# Altium footprint library PcbLib1.PcbLib: 5 footprints
Each footprint in its own frame and in the unit in brackets; x right, y up, seen from the top. Pads: shape width x height; smd on the part's side, far side on the other; paste and mask are expansions set on the pad; w line width, h text height; cw(c..) or ccw(c..) is an arc to the next point about the centre after c.
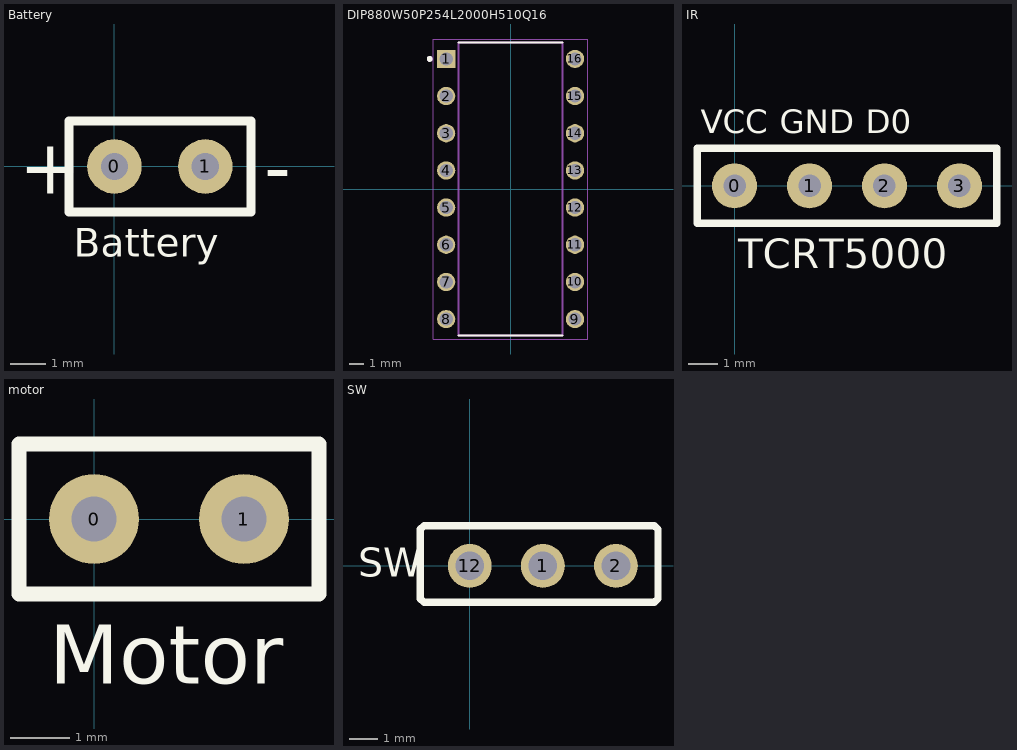
[diagram p0: the footprints below, top view; thin cyan lines are the x and y axes]

## Battery [mil]
pads (2):
  round 60 hole 30: 0(0,0) 1(100,0)
Top Overlay:
  lines w10: -50,-50 -50,50 150,50 150,-50 -50,-50
  text "-" at 165,-29.99 h60
  text "+" at -105,-30 h60
  text "Battery" at -45,-99.5 h31.5
3D body "DS1023-1_4S21 v3.step": height 330.71, standoff -124.02, extent -50,-50 153.15,48.43

## DIP880W50P254L2000H510Q16 [mm]
height 5.1
pads (16):
  rect 1.25x1.25 / inner round 1.25 / far side rect 1.25x1.25 hole 0.9: 1(-4.4,8.89)
  round 1.25 hole 0.9: 2(-4.4,6.35) 3(-4.4,3.81) 4(-4.4,1.27) 5(-4.4,-1.27) 6(-4.4,-3.81) 7(-4.4,-6.35) 8(-4.4,-8.89) 9(4.4,-8.89) 10(4.4,-6.35) 11(4.4,-3.81) 12(4.4,-1.27) 13(4.4,1.27) 14(4.4,3.81) 15(4.4,6.35) 16(4.4,8.89)
Top Overlay:
  circle w0.2: c-5.525,8.89 r0.1
  lines w0.127: -3.55,-10 3.55,-10 ; -3.55,10 3.55,10
Mechanical 13:
  circle w0.2: c-5.525,8.89 r0.1
  lines w0.127: -3.55,-10 -3.55,10 3.55,10 3.55,-10 -3.55,-10
Mechanical 15:
  lines w0.05: -5.275,-10.25 -5.275,10.25 5.275,10.25 5.275,-10.25 -5.275,-10.25
3D body "step_temp.STEP": height 5.1, standoff -3.3, extent -4.62,-10 4.62,10

## IR [mil]
pads (4):
  round 60 hole 30: 0(0,0) 1(100,0) 2(200,0) 3(300,0)
Top Overlay:
  lines w10: -50,-50 -50,50 350,50 350,-50 -50,-50
  text "TCRT5000" at 5,-110 h39.37
  text "VCC" at -45,70 h31.5
  text "GND" at 60,70 h31.5
  text "D0" at 175,70 h31.5
3D body "DS1023-1_4S21 v2.step": height 330.71, standoff -124.02, extent -50,-50 350,48.43

## motor [mil]
pads (2):
  round 60 hole 30: 0(0,0) 1(100,0)
Top Overlay:
  lines w10: -50,-50 -50,50 150,50 150,-50 -50,-50
  text "Motor" at -30,-110 h39.37
3D body "DS1023-1_4S21 v3.step": height 330.71, standoff -124.02, extent -50,-50 153.15,48.43

## SW [mil]
pads (3):
  round 60 hole 39.37: 1(100,0) 2(200,0) 12(0,0)
Top Overlay:
  lines w10: -67.5,-45 -62.5,-50 252.5,-50 257.5,-45 257.5,50 252.5,55 242.5,55 222.5,55 -62.5,55 -67.5,50 -67.5,0 -67.5,-45
  text "SW" at -152.8,-15 h39.37